# EAGLE library part HC4067_BREAKOUT_BOARD (library HC4067_breakout_board)
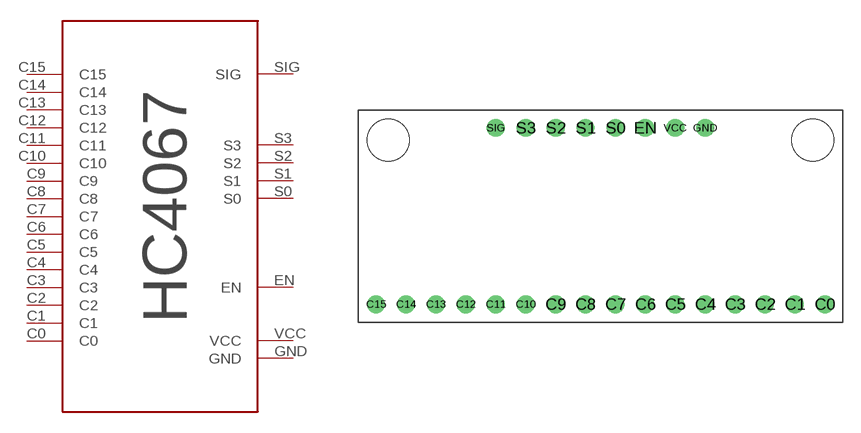
[diagram p0: symbol with the pads of ANALOG_MUX_BREAKOUT_HC4067; footprint ANALOG_MUX_BREAKOUT_HC4067]

Designator prefix -

## HC4067_BREAKOUT_BOARD  [ANALOG_MUX_BREAKOUT_HC4067]
C0  C0
C1  C1
C2  C2
C3  C3
C4  C4
C5  C5
C6  C6
C7  C7
C8  C8
C9  C9
C10  C10
C11  C11
C12  C12
C13  C13
C14  C14
C15  C15
EN  EN
GND  GND
S0  S0
S1  S1
S2  S2
S3  S3
SIG  SIG
VCC  VCC

## Footprint ANALOG_MUX_BREAKOUT_HC4067 (pad centres in mm)
drill 1: C0 19.05,-7.493; C1 16.51,-7.493; C2 13.97,-7.493; C3 11.43,-7.493; C4 8.89,-7.493; C5 6.35,-7.493; C6 3.81,-7.493; C7 1.27,-7.493; C8 -1.27,-7.493; C9 -3.81,-7.493; C10 -6.35,-7.493; C11 -8.89,-7.493; C12 -11.43,-7.493; C13 -13.97,-7.493; C14 -16.51,-7.493; C15 -19.05,-7.493; EN 3.81,7.493; GND 8.89,7.493; S0 1.27,7.493; S1 -1.27,7.493; S2 -3.81,7.493; S3 -6.35,7.493; SIG -8.89,7.493; VCC 6.35,7.493
hole 3.556 at 18.034,6.477
hole 3.556 at -18.034,6.477